# Altium schematic symbol library NMOS.SchLib: 1 symbol
Pins are listed as number, name and electrical type; pins without a type are passive.

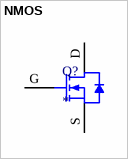
[diagram p0: symbol NMOS]

## NMOS
designator Q?
footprint NMOS
footprint NMOS2
pins: D, G, S